# EAGLE library part G6S (library parts)
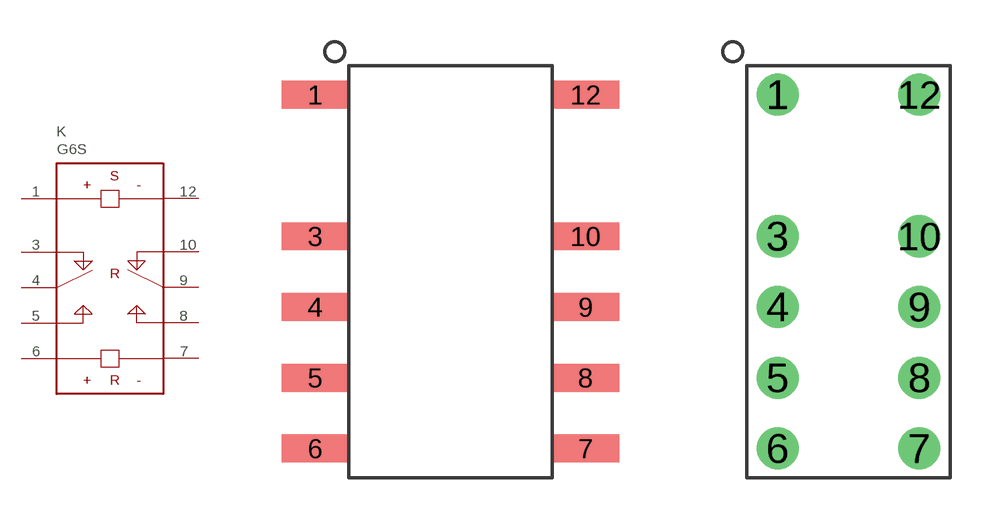
[diagram p5: symbol with the pads of G6SK-2F; footprints G6SK-2F, G6SK-2]

Designator prefix K

## G6S-2F  [G6SK-2F]
1  S+  pas
3  R1  pas
4  C1  pas
5  S1  pas
6  R+  pas
7  R-  pas
8  S2  pas
9  C2  pas
10  R2  pas
12  S-  pas

## G6S-2  [G6SK-2]
Pads as for G6SK-2F

## Footprint G6SK-2F (pad centres in mm)
smd 2.4 x 1: 1 -4.85,6.35; 3 -4.85,1.27; 4 -4.85,-1.27; 5 -4.85,-3.81; 6 -4.85,-6.35; 7 4.85,-6.35; 8 4.85,-3.81; 9 4.85,-1.27; 10 4.85,1.27; 12 4.85,6.35

## Footprint G6SK-2 (pad centres in mm)
drill 1 round: 1 -2.54,6.35; 3 -2.54,1.27; 4 -2.54,-1.27; 5 -2.54,-3.81; 6 -2.54,-6.35; 7 2.54,-6.35; 8 2.54,-3.81; 9 2.54,-1.27; 10 2.54,1.27; 12 2.54,6.35